# Altium footprint library c7343_31.PcbLib: 1 footprints
Each footprint in its own frame and in the unit in brackets; x right, y up, seen from the top. Pads: shape width x height; smd on the part's side, far side on the other; paste and mask are expansions set on the pad; w line width, h text height; cw(c..) or ccw(c..) is an arc to the next point about the centre after c.
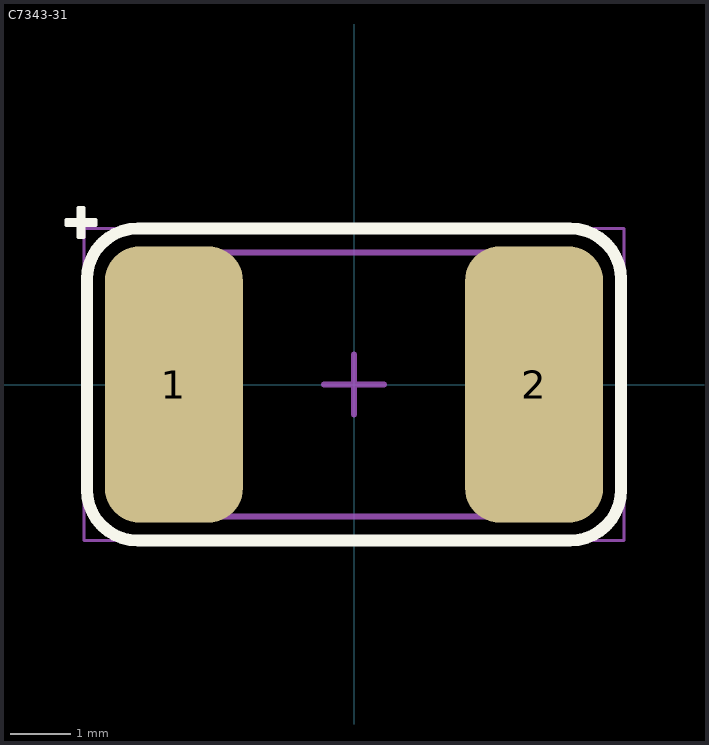
[diagram p0: the footprint, top view; thin cyan lines are the x and y axes]

## C7343-31 [mm] "Chip Capacitor, 2-Leads, Body 7,30x4,30mm, IPC Medium Density"
height 3.1
pads (2):
  rrect50% 2.3x4.6 smd: 1(-3,0) 2(3,0)
Top Layer:
  lines w0.05: 2.425,-0.75 2.45,-0.75
Top Overlay:
  rectangle: -4.6,2.45 -4.5,2.95
  rectangle: -4.8,2.65 -4.3,2.75
  lines w0.05: -4.8,2.65 -4.6,2.65 -4.6,2.45 -4.5,2.45 -4.5,2.65 -4.3,2.65 -4.3,2.75 -4.5,2.75 -4.5,2.95 -4.6,2.95 -4.6,2.75 -4.8,2.75 -4.8,2.65
  lines w0.2: -4.45,-1.75 ccw(c-3.6,-1.75) -3.6,-2.6 3.6,-2.6 ccw(c3.6,-1.75) 4.45,-1.75 4.45,1.75 ccw(c3.6,1.75) 3.6,2.6 -3.6,2.6 ccw(c-3.6,1.75) -4.45,1.75 -4.45,-1.75
Top Comment:
  text ".Comment" at 1,2.8 h1.2
Top Designator:
  text ".Designator" at -0.5,2.8 h1.2
Top Component Outline:
  lines w0.1: -3.6,-2.2 -3.6,2.2 3.6,2.2 3.6,-2.2 -3.6,-2.2
Top Courtyard (Mech15):
  lines w0.05: -4.5,-2.6 -4.5,2.6 4.5,2.6 4.5,-2.6 -4.5,-2.6
  lines w0.1: -0.5,0 0.5,0 ; 0,-0.5 0,0.5
3D body "C7343-31.STEP": height 2.92, standoff 0.01, extent -3.6,-2.209 3.588,2.208